# Altium schematic symbol library Components_Sch.SchLib: 7 symbols
Pins are listed as number, name and electrical type; pins without a type are passive.

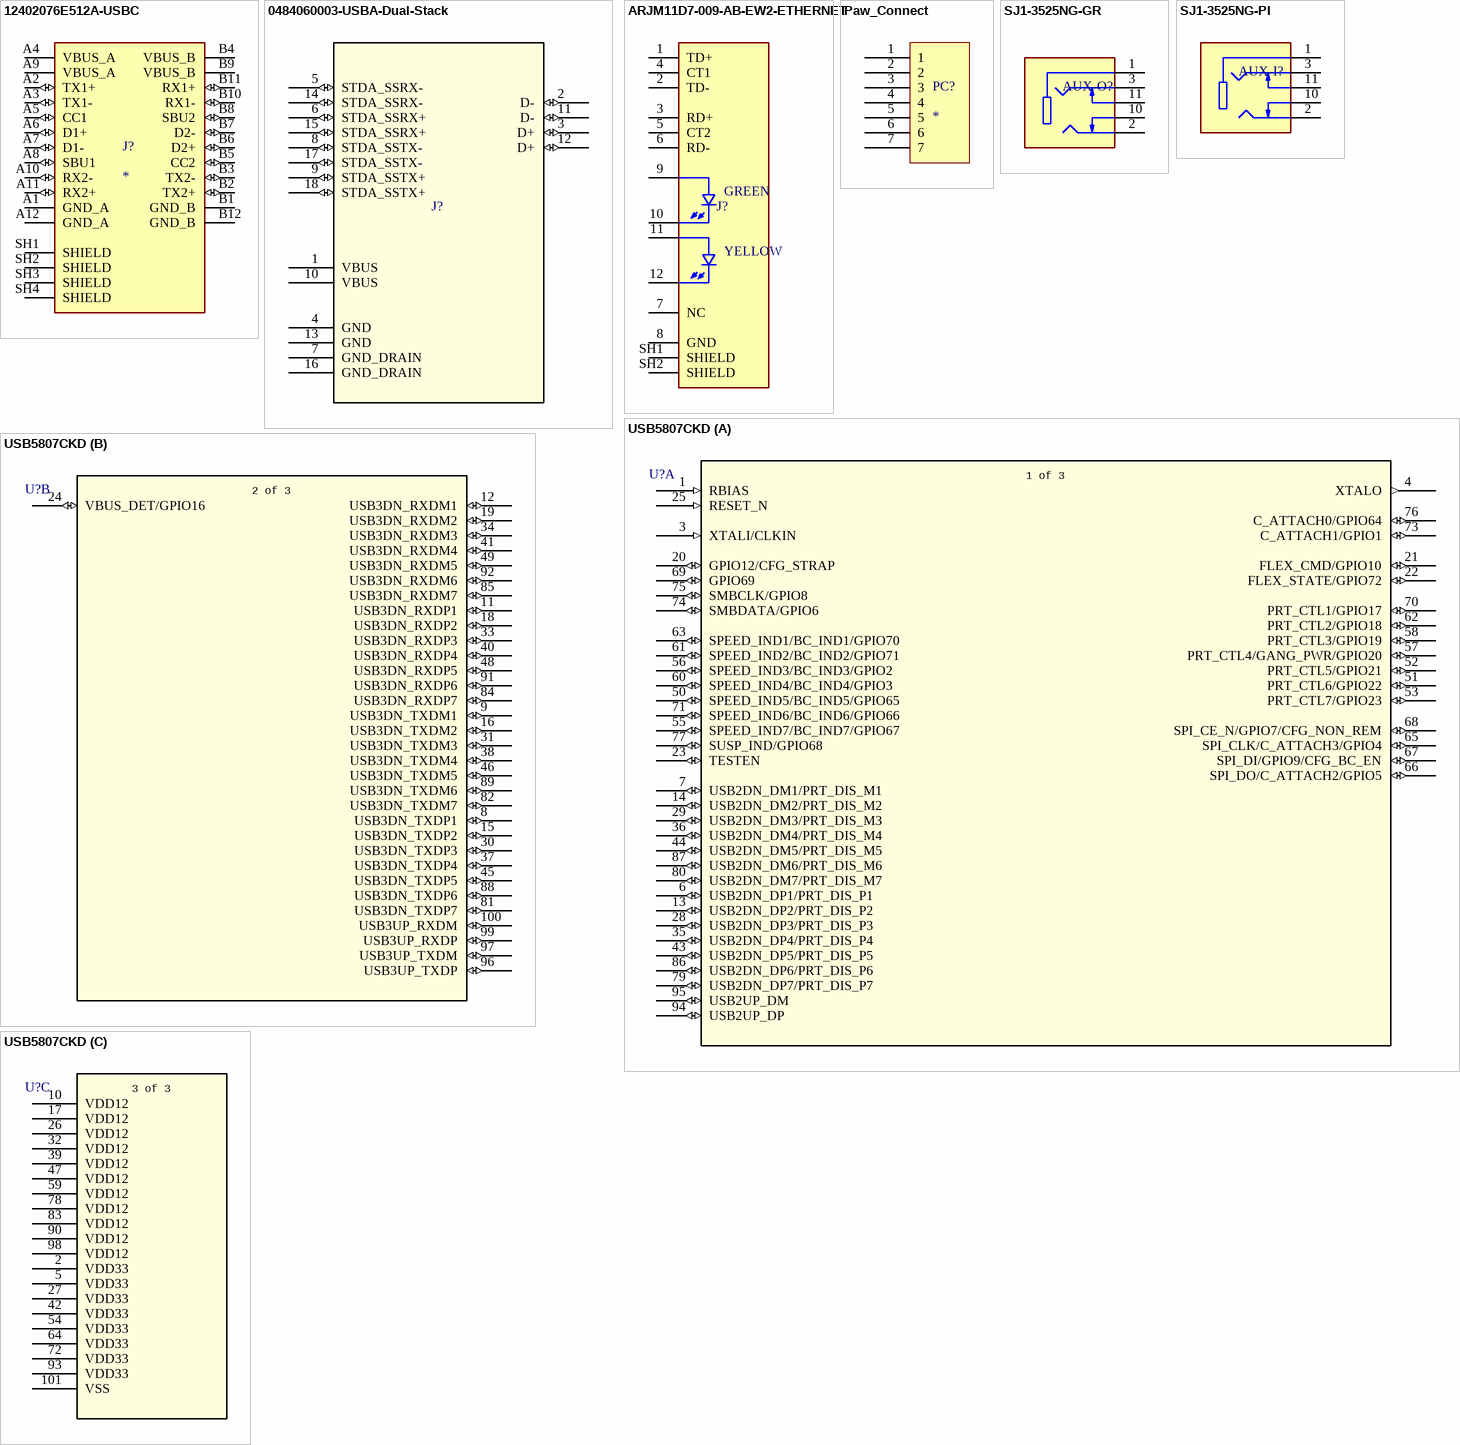
[diagram p0: symbols 12402076E512A-USBC to USB5807CKD]

## 12402076E512A-USBC
designator J?
USB CONN, 4.0 TYPE C, R/A RCPT, 24P, SMT; USB Connector Type: USB Type C; USB Standard: USB 4.0; Gender: Receptacle; No. of Positions: 24Positions; Connector Mounting: Surface Mount, Through Hole Mount; Or 79AJ9108; ComponentLink1Description: Digikey; ComponentLink1URL: https://www.digikey.com/en/products/detail/amphenol-cs-commercial-products/12402076E512A/15926893
footprint 12402076E512A-USBC (USB CONN, 4.0 TYPE C, R/A RCPT, 24P, SMT; USB Connector Type: USB Type C; USB Standard: USB 4.0; Gender: Receptacle; No. of Positions: 24Positions; Connector Mounting: Surface Mount, Through Hole Mount; Or 79AJ9108)
pins: A1 GND_A (power), A2 TX1+ (io), A3 TX1- (io), A4 VBUS_A (power), A5 CC1 (io), A6 D1+ (io), A7 D1- (io), A8 SBU1 (io), A9 VBUS_A (power), A10 RX2- (io), A11 RX2+ (io), A12 GND_A (power), B1 GND_B (power), B2 TX2+ (io), B3 TX2- (io), B4 VBUS_B (power), B5 CC2 (io), B6 D2+ (io), B7 D2- (io), B8 SBU2 (io), B9 VBUS_B (power), B10 RX1- (io), B11 RX1+ (io), B12 GND_B (power), SH1 SHIELD, SH2 SHIELD, SH3 SHIELD, SH4 SHIELD

## 0484060003-USBA-Dual-Stack
designator J?  (value not drawn)
Universal Serial Bus (USB 3.0) I/O Receptacle, Dual Port Stacked, Right-Angle, Type A, High-Temperature Blue Nylon, 0.38Âµm Gold (Au) Plating, Contact Height 4.13mm; ComponentLink1Description: Digikey; ComponentLink1URL: https://www.digikey.com/en/products/detail/molex/0484060003/4701516
footprint 0484060003-USBA-Dual-Stack (Universal Serial Bus (USB 3.0) I/O Receptacle, Dual Port Stacked, Right-Angle, Type A, High-Temperature Blue Nylon, 0.38Âµm Gold (Au) Plating, Contact Height 4.13mm)
pins: 1 VBUS (power), 2 D- (io), 3 D+ (io), 4 GND (power), 5 STDA_SSRX- (io), 6 STDA_SSRX+ (io), 7 GND_DRAIN (power), 8 STDA_SSTX- (io), 9 STDA_SSTX+ (io), 10 VBUS (power), 11 D- (io), 12 D+ (io), 13 GND (power), 14 STDA_SSRX- (io), 15 STDA_SSRX+ (io), 16 GND_DRAIN (power), 17 STDA_SSTX- (io), 18 STDA_SSTX+ (io)

## ARJM11D7-009-AB-EW2-ETHERNET
designator J?  (value not drawn)
ComponentLink1Description: Digikey; ComponentLink1URL: https://www.digikey.com/en/products/detail/abracon-llc/ARJM11D7-009-AB-EW2/7675229
footprint ARJM11D7-009-AB-EW2-ETHERNET
pins: 1 TD+, 2 TD-, 3 RD+, 4 CT1, 5 CT2, 6 RD-, 7 NC, 8 GND (power), 9, 10, 11, 12, SH1 SHIELD, SH2 SHIELD
text: GREEN; YELLOW

## Paw_Connect
designator PC?
Tag-Connect TC2030-*-NL pogo pin programming cable but as a paw.
footprint Paw_Connect (Tag-Connect TC2030-*-NL pogo pin programming cable but as a paw.)
pins: 1, 2, 3, 4, 5, 6, 7

## SJ1-3525NG-GR
designator AUX-O?
Stereo audio output via a 3.5mm AUX connector / 3.5 mm, Stereo, Right Angle, Through Hole, Isolated Ground, 3 Conductors, 2 Internal Switches, Audio Jack Connector / https://www.digikey.com/en/products/detail/same-sky-formerly-cui-devices/SJ1-3525NG-GR/2295990; ComponentLink1Description: Digikey; ComponentLink1URL: https://www.digikey.com/en/products/detail/same-sky-formerly-cui-devices/SJ1-3525NG-GR/2295990
footprint SJ1-3525NG-GR (Stereo audio output via a 3.5mm AUX connector)
pins: 1, 2, 3, 10, 11

## SJ1-3525NG-PI
designator AUX-I?  (value not drawn)
Stereo audio input via a 3.5mm AUX connector / 3.5 mm, Stereo, Right Angle, Through Hole, Isolated Ground, 3 Conductors, 2 Internal Switches, Audio Jack Connector / https://www.digikey.com/en/products/detail/same-sky-formerly-cui-devices/SJ1-3525NG-GR/2295990; ComponentLink1Description: Digikey; ComponentLink1URL: https://www.digikey.com/en/products/detail/same-sky-formerly-cui-devices/SJ1-3525NG-PI/2295991
footprint SJ1-3525NG-PI (Stereo audio input via a 3.5mm AUX connector)
pins: 1, 2, 3, 10, 11

## USB5807CKD
designator U?, comment USB5807C/KD  (value not drawn)
IC USB HUB CNTRL I2C/SPI 100VQFN 7port USB 3.2 hub; Manufacturer_Name: Microchip; Copyright: Copyright (C) 2026 Ultra Librarian. All rights reserved.; Manufacturer_Part_Number: USB5807C/KD; RefDes: RefDes; Type: Type; ComponentLink1Description: Digikey; ComponentLink1URL: https://www.digikey.com/en/products/detail/microchip-technology/USB5807C-KD/10231377
footprint VQFN100_KDX_MCH
footprint VQFN100_KDX_MCH
part A pins: 1 RBIAS (in), 3 XTALI/CLKIN (in), 4 XTALO (out), 6 USB2DN_DP1/PRT_DIS_P1 (io), 7 USB2DN_DM1/PRT_DIS_M1 (io), 13 USB2DN_DP2/PRT_DIS_P2 (io), 14 USB2DN_DM2/PRT_DIS_M2 (io), 20 GPIO12/CFG_STRAP (io), 21 FLEX_CMD/GPIO10 (io), 22 FLEX_STATE/GPIO72 (io), 23 TESTEN (io), 25 RESET_N (in), 28 USB2DN_DP3/PRT_DIS_P3 (io), 29 USB2DN_DM3/PRT_DIS_M3 (io), 35 USB2DN_DP4/PRT_DIS_P4 (io), 36 USB2DN_DM4/PRT_DIS_M4 (io), 43 USB2DN_DP5/PRT_DIS_P5 (io), 44 USB2DN_DM5/PRT_DIS_M5 (io), 50 SPEED_IND5/BC_IND5/GPIO65 (io), 51 PRT_CTL6/GPIO22 (io), 52 PRT_CTL5/GPIO21 (io), 53 PRT_CTL7/GPIO23 (io), 55 SPEED_IND7/BC_IND7/GPIO67 (io), 56 SPEED_IND3/BC_IND3/GPIO2 (io), 57 PRT_CTL4/GANG_PWR/GPIO20 (io), 58 PRT_CTL3/GPIO19 (io), 60 SPEED_IND4/BC_IND4/GPIO3 (io), 61 SPEED_IND2/BC_IND2/GPIO71 (io), 62 PRT_CTL2/GPIO18 (io), 63 SPEED_IND1/BC_IND1/GPIO70 (io), 65 SPI_CLK/C_ATTACH3/GPIO4 (io), 66 SPI_DO/C_ATTACH2/GPIO5 (io), 67 SPI_DI/GPIO9/CFG_BC_EN (io), 68 SPI_CE_N/GPIO7/CFG_NON_REM (io), 69 GPIO69 (io), 70 PRT_CTL1/GPIO17 (io), 71 SPEED_IND6/BC_IND6/GPIO66 (io), 73 C_ATTACH1/GPIO1 (io), 74 SMBDATA/GPIO6 (io), 75 SMBCLK/GPIO8 (io), 76 C_ATTACH0/GPIO64 (io), 77 SUSP_IND/GPIO68 (io), 79 USB2DN_DP7/PRT_DIS_P7 (io), 80 USB2DN_DM7/PRT_DIS_M7 (io), 86 USB2DN_DP6/PRT_DIS_P6 (io), 87 USB2DN_DM6/PRT_DIS_M6 (io), 94 USB2UP_DP (io), 95 USB2UP_DM (io)
part B pins: 8 USB3DN_TXDP1 (io), 9 USB3DN_TXDM1 (io), 11 USB3DN_RXDP1 (io), 12 USB3DN_RXDM1 (io), 15 USB3DN_TXDP2 (io), 16 USB3DN_TXDM2 (io), 18 USB3DN_RXDP2 (io), 19 USB3DN_RXDM2 (io), 24 VBUS_DET/GPIO16 (io), 30 USB3DN_TXDP3 (io), 31 USB3DN_TXDM3 (io), 33 USB3DN_RXDP3 (io), 34 USB3DN_RXDM3 (io), 37 USB3DN_TXDP4 (io), 38 USB3DN_TXDM4 (io), 40 USB3DN_RXDP4 (io), 41 USB3DN_RXDM4 (io), 45 USB3DN_TXDP5 (io), 46 USB3DN_TXDM5 (io), 48 USB3DN_RXDP5 (io), 49 USB3DN_RXDM5 (io), 81 USB3DN_TXDP7 (io), 82 USB3DN_TXDM7 (io), 84 USB3DN_RXDP7 (io), 85 USB3DN_RXDM7 (io), 88 USB3DN_TXDP6 (io), 89 USB3DN_TXDM6 (io), 91 USB3DN_RXDP6 (io), 92 USB3DN_RXDM6 (io), 96 USB3UP_TXDP (io), 97 USB3UP_TXDM (io), 99 USB3UP_RXDP (io), 100 USB3UP_RXDM (io)
part C pins: 2 VDD33 (power), 5 VDD33 (power), 10 VDD12 (power), 17 VDD12 (power), 26 VDD12 (power), 27 VDD33 (power), 32 VDD12 (power), 39 VDD12 (power), 42 VDD33 (power), 47 VDD12 (power), 54 VDD33 (power), 59 VDD12 (power), 64 VDD33 (power), 72 VDD33 (power), 78 VDD12 (power), 83 VDD12 (power), 90 VDD12 (power), 93 VDD33 (power), 98 VDD12 (power), 101 VSS (power)
part A text: 1 of 3
part B text: 2 of 3
part C text: 3 of 3